# EAGLE library part CONN_1X12_FEMALE (library milador)
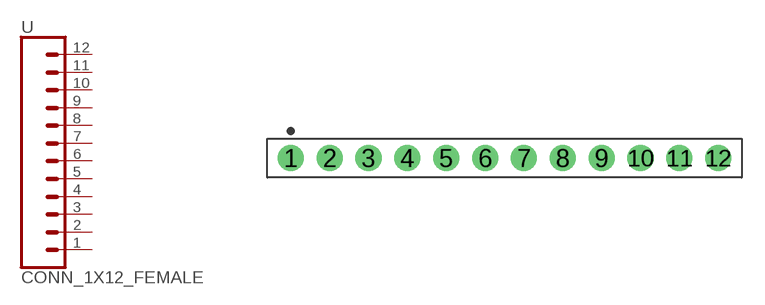
[diagram p0: symbol with the pads of CONN_1X12; footprint CONN_1X12]

Designator prefix -

## CONN_1X12_FEMALECONN_1X12_FEMALE  [CONN_1X12]
1  1  pas
2  2  pas
3  3  pas
4  4  pas
5  5  pas
6  6  pas
7  7  pas
8  8  pas
9  9  pas
10  10  pas
11  11  pas
12  12  pas

## Footprint CONN_1X12 (pad centres in mm)
Single-row, 12-pin Receptacle Header (Female) Straight, 2.54 mm (0.10 in) col pitch, 8.50 mm insulator length, 30.98 X 2.54 X 8.50 mm body Single-row (1X12), 12-pin Receptacle Header (Female) Straight package with 2.54 mm (0.10 in) col pitch, 0.64 mm lead width, 3.00 mm tail length and 8.50 mm insulator length with overall size 30.98 X 2.54 X 8.50 mm, pin pattern - clockwise from top left
drill 1.105 pad 1.705: 1 0,0; 2 2.54,0; 3 5.08,0; 4 7.62,0; 5 10.16,0; 6 12.7,0; 7 15.24,0; 8 17.78,0; 9 20.32,0; 10 22.86,0; 11 25.4,0; 12 27.94,0